# EAGLE library part MC9S08QD4 (library Freescale)
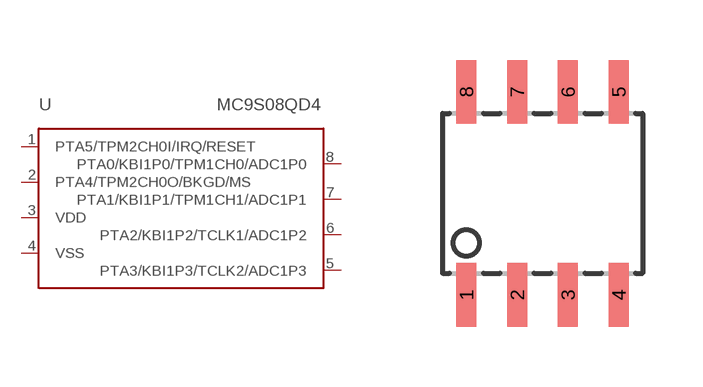
[diagram p1: symbol with the pads of SOIC-8-NARROW-BODY; footprint SOIC-8-NARROW-BODY]

Designator prefix U

## MC9S08QD4  [SOIC-8-NARROW-BODY]
1  PTA5/TPM2CH0I/IRQ/RESET
2  PTA4/TPM2CH0O/BKGD/MS
3  VDD
4  VSS
5  PTA3/KBI1P3/TCLK2/ADC1P3
6  PTA2/KBI1P2/TCLK1/ADC1P2
7  PTA1/KBI1P1/TPM1CH1/ADC1P1
8  PTA0/KBI1P0/TPM1CH0/ADC1P0

## Footprint SOIC-8-NARROW-BODY (pad centres in mm)
smd 0.5 x 1.6: 1 -1.905,-2.54; 2 -0.635,-2.54; 3 0.635,-2.54; 4 1.905,-2.54; 5 1.905,2.54; 6 0.635,2.54; 7 -0.635,2.54; 8 -1.905,2.54